# Altium footprint library CAP-TAN-A.PcbLib: 1 footprints
Each footprint in its own frame and in the unit in brackets; x right, y up, seen from the top. Pads: shape width x height; smd on the part's side, far side on the other; paste and mask are expansions set on the pad; w line width, h text height; cw(c..) or ccw(c..) is an arc to the next point about the centre after c.
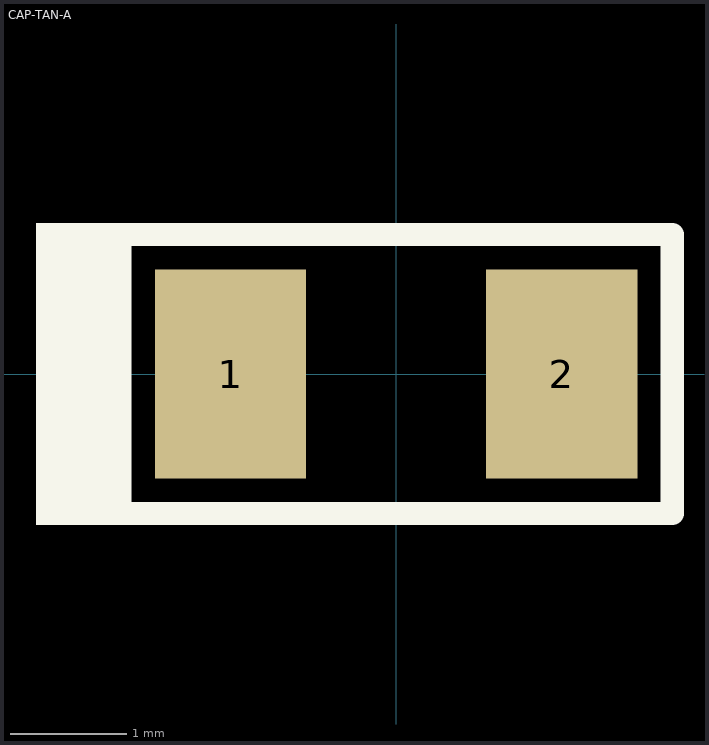
[diagram p0: the footprint, top view; thin cyan lines are the x and y axes]

## CAP-TAN-A [mm]
height 0.95
pads (2):
  rect 1.3x1.8 smd: 1(-1.425,0) 2(1.425,0)
Top Overlay:
  rectangle: -3.1,-1.3 -2.325,1.3
  lines w0.2: -2.375,-1.2 2.375,-1.2 2.375,1.2 -2.375,1.2 -2.375,-1.2
Top Assembly:
  lines w0.1: -2.35,-1.175 -2.35,1.175 2.35,1.175 2.35,-1.175 -2.35,-1.175
  text "'.Designator'" at -0.925,-0.325 h0.7
3D body "User Library-CAP_TAN_C3216_1206.STEP": height 1.8, standoff 0, extent -1.7,-0.9 1.7,0.9